# EAGLE library part ESP32-MODULE (library ESP32-module)
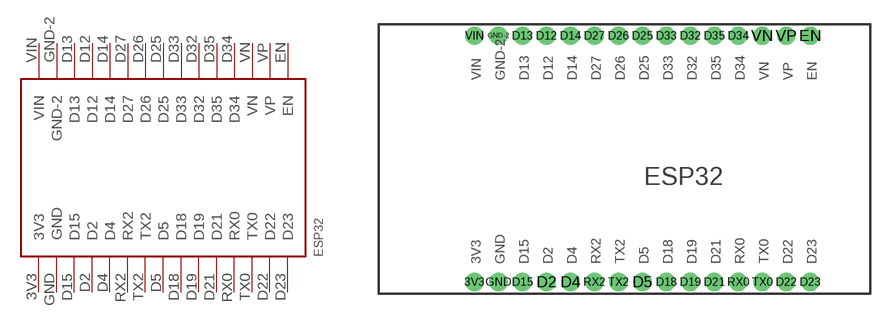
[diagram p0: symbol with the pads of ESP32-MODULE; footprint ESP32-MODULE]

Designator prefix -

## ESP32-MODULE  [ESP32-MODULE]
3V3  3V3
D2  D2
D4  D4
D5  D5
D12  D12
D13  D13
D14  D14
D15  D15
D18  D18
D19  D19
D21  D21
D22  D22
D23  D23
D25  D25
D26  D26
D27  D27
D32  D32
D33  D33
D34  D34
D35  D35
EN  EN
GND  GND
GND-2  GND-2
RX0  RX0
RX2  RX2
TX0  TX0
TX2  TX2
VIN  VIN
VN  VN
VP  VP

## Footprint ESP32-MODULE (pad centres in mm)
drill 1 pad 1.93: 3V3 -24.14,-10.15; D2 -16.52,-10.15; D4 -13.98,-10.15; D5 -6.36,-10.15; D12 -16.52,15.929; D13 -19.06,15.929; D14 -13.98,15.929; D15 -19.06,-10.15; D18 -3.82,-10.15; D19 -1.28,-10.15; D21 1.26,-10.15; D22 8.88,-10.15; D23 11.42,-10.15; D25 -6.36,15.929; D26 -8.9,15.929; D27 -11.44,15.929; D32 -1.28,15.929; D33 -3.82,15.929; D34 3.8,15.929; D35 1.26,15.929; EN 11.42,15.929; GND -21.6,-10.15; GND-2 -21.6,15.929; RX0 3.8,-10.15; RX2 -11.44,-10.15; TX0 6.34,-10.15; TX2 -8.9,-10.15; VIN -24.14,15.929; VN 6.34,15.929; VP 8.88,15.929